# Altium schematic symbol library Digital ICs.SchLib: 15 symbols
Pins are listed as number, name and electrical type; pins without a type are passive.

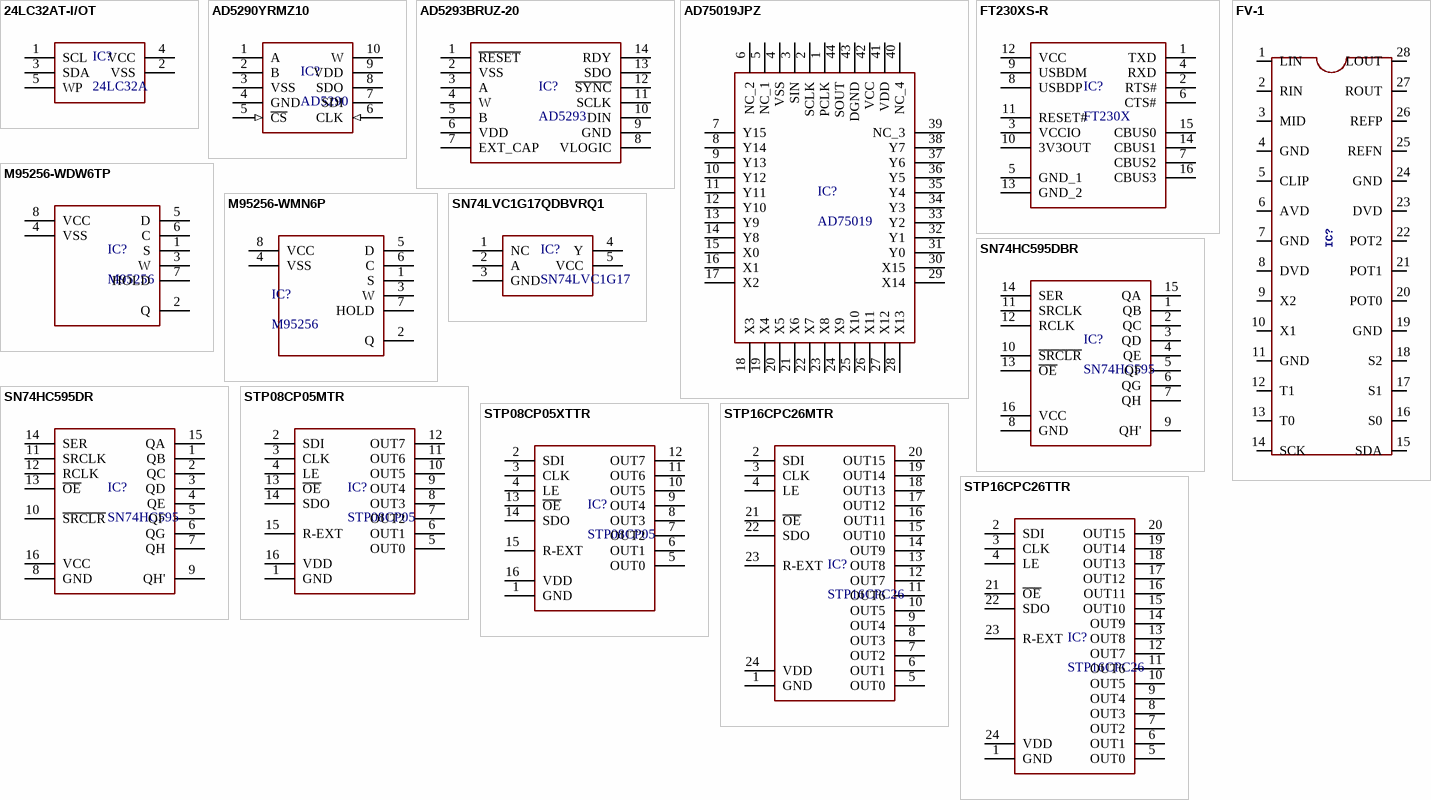
[diagram p0: symbols 24LC32AT-I/OT to STP16CPC26TTR]

## 24LC32AT-I/OT
designator IC?, comment 24LC32A
IC EEPROM 32KBIT 400KHZ SOT23-5; Manufacturer: Microchip; Manufacturer Part Number: 24LC32AT-I/OT; Interface: I2C,Serial; Access Time: 900ns; Density: 32Kb; Min Supply Voltage: 2.5V; Max Supply Voltage: 5.5V; Nominal Supply Current: 3mA; Operating Supply Voltage: 5V; Supplier 1: Farnell; Supplier Part Number 1: 1700993; RoHS: Yes; Category: EEPROM; Stock: 3287; Pricing: 1=0.29400, 10=0.29000, 25=0.28600, 50=0.27700, 100=0.26900 (EUR); Mount: Surface Mount; Case/Package: SOT-23; Number of Pins: 5; Contact Plating: Tin,Matte; Min Operating Temperature: -40°C; Max Operating Temperature: 85°C; Max Frequency: 400kHz; Frequency: 400kHz; Packaging: Tape and Reel; Package Quantity: 3000; Memory Type: EEPROM; Memory Size: 32Kb; Termination: SMD/SMT; Length: 3.1mm; Height: 1.3mm; Width: 1.8mm; Radiation Hardening: No; REACH SVHC: No SVHC; Lead Free: Lead Free; ComponentLink1URL: https://datasheet.ciiva.com/1155/1688094-1155269.pdf?src-supplier=Element14; ComponentLink1Description: https://datasheet.ciiva.com/1155/1688094-1155269.pdf?src-supplier=Element14; ComponentLink2URL: https://datasheet.ciiva.com/14134/24aa32a-24lc32a-eng-tds-14134837.pdf?src-supplier=Distrelec; ComponentLink2Description: https://datasheet.ciiva.com/14134/24aa32a-24lc32a-eng-tds-14134837.pdf?src-supplier=Distrelec; ComponentLink3URL: https://datasheet.ciiva.com/16221/filehandler-aspxddocname-en011853-16221753.pdf?src-supplier=Future+Electronics; ComponentLink3Description: https://datasheet.ciiva.com/16221/filehandler-aspxddocname-en011853-16221753.pdf?src-supplier=Future+Electronics; ComponentLink4URL: https://datasheet.ciiva.com/46410/1669362-46410953.pdf?src-supplier=Element14; ComponentLink4Description: https://datasheet.ciiva.com/46410/1669362-46410953.pdf?src-supplier=Element14; ComponentLink5URL: https://datasheet.ciiva.com/26910/getdatasheetpartid-757926-26910554.pdf?src-supplier=Verical; ComponentLink5Description: https://datasheet.ciiva.com/26910/getdatasheetpartid-757926-26910554.pdf?src-supplier=Verical; ComponentLink6URL: https://datasheet.ciiva.com/16621/21713l-16621534.pdf?src-supplier=Avnet+Europe; ComponentLink6Description: https://datasheet.ciiva.com/16621/21713l-16621534.pdf?src-supplier=Avnet+Europe; ComponentLink7URL: https://datasheet.ciiva.com/22715/1669362-22715182.pdf?src-supplier=Element14; ComponentLink7Description: https://datasheet.ciiva.com/22715/1669362-22715182.pdf?src-supplier=Element14; Price: 0.302
footprint SOT-23-5
pins: 1 SCL, 2 VSS (power), 3 SDA, 4 VCC (power), 5 WP

## AD5290YRMZ10
designator IC?, comment AD5290
DIGIPOT 8BIT 10K, SMD, 5290, MSOP10; Manufacturer: Analog Devices; Manufacturer Part Number: AD5290YRMZ10; Resistance: 10kR; Memory Type: Volatile; Number of Positions: 256; Interface: SPI; Min Supply Voltage: 20V; Max Supply Voltage: 30V; Number of Elements: 1; Tolerance: 30%; Nominal Supply Current: 15uA; Min Dual Supply Voltage: 10V; Max Dual Supply Voltage: 15V; Temperature Coefficient: 35ppm/°C; Frequency: 4MHz; -3db Bandwidth: 470Hz; Voltage: 35V; Supplier 1: Farnell; Supplier Part Number 1: 1274278; RoHS: Yes; Category: Digital Potentiometers; Stock: 199; Pricing: 1=5.36000, 10=4.31000, 25=3.90000, 50=3.71000, 100=3.55000, 250=3.20000, 500=2.75000 (EUR); Mount: Surface Mount; Case/Package: MSOP; Number of Pins: 10; Contact Plating: Tin,Matte; Min Operating Temperature: -40°C; Max Operating Temperature: 125°C; Packaging: Rail/Tube; Package Quantity: 50; Taper: Linear; Number of Circuits: 1; Number of Taps: 256; Operating Supply Current: 15uA; Max Supply Current: 15uA; Length: 3mm; Height: 0.85mm; Width: 3mm; Radiation Hardening: No; Lead Free: Contains Lead; REACH SVHC: No SVHC; ComponentLink1URL: https://datasheet.ciiva.com/1145/1519523-1145622.pdf?src-supplier=Element14; ComponentLink1Description: https://datasheet.ciiva.com/1145/1519523-1145622.pdf?src-supplier=Element14; ComponentLink2URL: https://datasheet.ciiva.com/25918/ad5290-25918522.pdf?src-supplier=Avnet+Europe; ComponentLink2Description: https://datasheet.ciiva.com/25918/ad5290-25918522.pdf?src-supplier=Avnet+Europe; ComponentLink3URL: https://datasheet.ciiva.com/1331/ad5290-1331012.pdf?src-supplier=Digi-Key; ComponentLink3Description: https://datasheet.ciiva.com/1331/ad5290-1331012.pdf?src-supplier=Digi-Key; ComponentLink4URL: https://datasheet.ciiva.com/16471/ad5290-16471686.pdf?src-supplier=Avnet+Asia; ComponentLink4Description: https://datasheet.ciiva.com/16471/ad5290-16471686.pdf?src-supplier=Avnet+Asia; ComponentLink5URL: https://datasheet.ciiva.com/3045/ad5290-3045389.pdf?src-supplier=Avnet; ComponentLink5Description: https://datasheet.ciiva.com/3045/ad5290-3045389.pdf?src-supplier=Avnet; Price: 4.93
footprint MSOP-10
pins: 1 A, 2 B, 3 VSS (power), 4 GND (power), 5 ~{CS} (in), 6 CLK (in), 7 SDI, 8 SDO, 9 VDD (power), 10 W

## AD5293BRUZ-20
designator IC?, comment AD5293
Digital Potentiometer 20kOhm 1024POS Volatile 14-Pin TSSOP Tube; Manufacturer: Analog Devices; Manufacturer Part Number: AD5293BRUZ-20; Resistance: 20kR; Number of Positions: 1024; Min Supply Voltage: 9V; Max Supply Voltage: 33V; Interface: SPI; Operating Supply Current: 200nA; Operating Supply Voltage: 15V; Temperature Coefficient: 5ppm/°C; Max Supply Current: 100nA; Tolerance: 1%; Number of Circuits: 1; Max Dual Supply Voltage: 16.5V; -3db Bandwidth: 520kHz; Supplier 1: Farnell; Supplier Part Number 1: 1827274; RoHS: Yes; Category: Digital Potentiometers; Stock: 195; Pricing: 1=6.38000, 10=5.22000, 25=4.92000, 50=4.62000, 100=4.39000, 250=4.12000, 500=3.94000 (EUR); Mount: Surface Mount; Case/Package: TSSOP; Number of Pins: 14; Contact Plating: Tin,Matte; Min Operating Temperature: -40°C; Max Operating Temperature: 105°C; Memory Type: Volatile; Packaging: Rail/Tube; Package Quantity: 96; Nominal Supply Current: 200nA; Taper: Linear; Number of Taps: 1024; Number of Elements: 1; Dual Supply Voltage: 15V; Min Dual Supply Voltage: 9V; Length: 5.1mm; Height: 1.2mm; Width: 4.5mm; Radiation Hardening: No; Lead Free: Contains Lead; REACH SVHC: No SVHC; ComponentLink1URL: https://datasheet.ciiva.com/25623/0900766b810ada80-25623724.pdf?src-supplier=RSComponents; ComponentLink1Description: https://datasheet.ciiva.com/25623/0900766b810ada80-25623724.pdf?src-supplier=RSComponents; ComponentLink2URL: https://datasheet.ciiva.com/1146/ad5293-1146560.pdf?src-supplier=Element14; ComponentLink2Description: https://datasheet.ciiva.com/1146/ad5293-1146560.pdf?src-supplier=Element14; ComponentLink3URL: https://datasheet.ciiva.com/26801/ad5293bruz-20-26801803.pdf?src-supplier=IIIC; ComponentLink3Description: https://datasheet.ciiva.com/26801/ad5293bruz-20-26801803.pdf?src-supplier=IIIC; ComponentLink4URL: https://datasheet.ciiva.com/1331/ad5293-1331078.pdf?src-supplier=Digi-Key; ComponentLink4Description: https://datasheet.ciiva.com/1331/ad5293-1331078.pdf?src-supplier=Digi-Key; ComponentLink5URL: https://datasheet.ciiva.com/3045/ad5293-3045960.pdf?src-supplier=Avnet; ComponentLink5Description: https://datasheet.ciiva.com/3045/ad5293-3045960.pdf?src-supplier=Avnet; ComponentLink6URL: https://datasheet.ciiva.com/1149/ad5293-1149307.pdf?src-supplier=Farnell; ComponentLink6Description: https://datasheet.ciiva.com/1149/ad5293-1149307.pdf?src-supplier=Farnell; ComponentLink7URL: https://datasheet.ciiva.com/16593/ad5293-16593547.pdf?src-supplier=Avnet+Europe; ComponentLink7Description: https://datasheet.ciiva.com/16593/ad5293-16593547.pdf?src-supplier=Avnet+Europe; ComponentLink8URL: https://datasheet.ciiva.com/15145/getdatasheetpartid-205736-15145773.pdf?src-supplier=Verical; ComponentLink8Description: https://datasheet.ciiva.com/15145/getdatasheetpartid-205736-15145773.pdf?src-supplier=Verical; ComponentLink9URL: https://datasheet.ciiva.com/1145/1314771-1145670.pdf?src-supplier=Element14; ComponentLink9Description: https://datasheet.ciiva.com/1145/1314771-1145670.pdf?src-supplier=Element14; ComponentLink10URL: https://datasheet.ciiva.com/48710/001246189-da-01-en-ic-dgtl-pot-1-ad5293bruz-20-tssop-14-adi-48710844.pdf?src-supplier=Conrad; ComponentLink10Description: https://datasheet.ciiva.com/48710/001246189-da-01-en-ic-dgtl-pot-1-ad5293bruz-20-tssop-14-adi-48710844.pdf?src-supplier=Conrad
footprint TSSOP-14 (TSOP, 14-Leads, Body 5.00x4.40mm, Pitch 0.65mm, IPC Medium Density)
pins: 1 ~{RESET}, 2 VSS, 3 A, 4 W, 5 B, 6 VDD, 7 EXT_CAP, 8 VLOGIC, 9 GND, 10 DIN, 11 SCLK, 12 ~{SYNC}, 13 SDO, 14 RDY

## AD75019JPZ
designator IC?, comment AD75019
Analog & Digital Crosspoint ICs 256 Analog Switches in 16x16 Array; Manufacturer: Analog Devices; Manufacturer Part Number: AD75019JPZ; On-State Resistance: 500R; Max Supply Voltage: 5.5V; Min Supply Voltage: 4.5V; Bandwidth: 20MHz; Operating Supply Current: 800uA; Supply Type: Single,Dual,Triple; Max Output Voltage: 11.5V; Nominal Supply Current: 1.5mA; Supplier 1: Mouser; RoHS: Yes; Category: Interface ICs; Stock 1: 290; Pricing 1: 1=37.61000, 5=36.05000, 10=34.69000, 25=33.12000, 50=31.18000, 100=28.25000 (USD); Case/Package: PLCC; Number of Pins: 44; Weight: 0.084185oz; Min Operating Temperature: -25°C; Max Operating Temperature: 85°C; Package Quantity: 27; Packaging: Rail/Tube; Max Dual Supply Voltage: 5.5V; Min Dual Supply Voltage: 4.5V; Length: 16.66mm; Width: 16.66mm; Height: 3.68mm; Radiation Hardening: No; Lead Free: Contains Lead; REACH SVHC: No SVHC; ComponentLink1URL: https://datasheet.ciiva.com/1170/66420-1170438.pdf?src-supplier=Element14; ComponentLink1Description: https://datasheet.ciiva.com/1170/66420-1170438.pdf?src-supplier=Element14; ComponentLink2URL: https://datasheet.ciiva.com/26824/ad75019jpz-26824058.pdf?src-supplier=IIIC; ComponentLink2Description: https://datasheet.ciiva.com/26824/ad75019jpz-26824058.pdf?src-supplier=IIIC; ComponentLink3URL: https://datasheet.ciiva.com/3036/ad75019-3036466.pdf?src-supplier=Avnet; ComponentLink3Description: https://datasheet.ciiva.com/3036/ad75019-3036466.pdf?src-supplier=Avnet; Price: 31.86
footprint PLCC-44
pins: 1 PCLK, 2 SCLK, 3 SIN, 4 VSS, 5 NC_1, 6 NC_2, 7 Y15, 8 Y14, 9 Y13, 10 Y12, 11 Y11, 12 Y10, 13 Y9, 14 Y8, 15 X0, 16 X1, 17 X2, 18 X3, 19 X4, 20 X5, 21 X6, 22 X7, 23 X8, 24 X9, 25 X10, 26 X11, 27 X12, 28 X13, 29 X14, 30 X15, 31 Y0, 32 Y1, 33 Y2, 34 Y3, 35 Y4, 36 Y5, 37 Y6, 38 Y7, 39 NC_3, 40 NC_4, 41 VDD, 42 VCC, 43 DGND, 44 SOUT

## FT230XS-R
designator IC?, comment FT230X
USB-to-UART 1-CH 512byte FIFO 5V 16-Pin SSOP T/R; Manufacturer: FTDI; Manufacturer Part Number: FT230XS-R; Data Rate: 12Mbps; Number of Channels: 1; Max Supply Voltage: 5.5V; Min Supply Voltage: 2.97V; Interface: UART,USB; Operating Supply Current: 8mA; Supplier 1: Farnell; Supplier Part Number 1: 2081321; RoHS: Yes; Category: Interface ICs; Stock 1: 45264; Mount: Surface Mount; Case/Package: SSOP; Number of Pins: 16; Weight: 0.004586oz; Min Operating Temperature: -40°C; Max Operating Temperature: 85°C; Packaging: Tape and Reel; Package Quantity: 3000; Operating Supply Voltage: 5V; Length: 5mm; Height: 0.059inch; Width: 0.157inch; ComponentLink1URL: https://datasheet.ciiva.com/1787/ds-ft230x-1787315.pdf?src-supplier=Digi-Key; ComponentLink1Description: https://datasheet.ciiva.com/1787/ds-ft230x-1787315.pdf?src-supplier=Digi-Key; ComponentLink2URL: https://datasheet.ciiva.com/4787/ds-ft230x-5395-4787571.pdf?src-supplier=Mouser; ComponentLink2Description: https://datasheet.ciiva.com/4787/ds-ft230x-5395-4787571.pdf?src-supplier=Mouser; ComponentLink3URL: https://datasheet.ciiva.com/30478/0900766b811020cb-30478167.pdf?src-supplier=RSComponents; ComponentLink3Description: https://datasheet.ciiva.com/30478/0900766b811020cb-30478167.pdf?src-supplier=RSComponents; ComponentLink4URL: https://datasheet.ciiva.com/1787/ft-x-series-1787316.pdf?src-supplier=Digi-Key; ComponentLink4Description: https://datasheet.ciiva.com/1787/ft-x-series-1787316.pdf?src-supplier=Digi-Key; ComponentLink5URL: https://datasheet.ciiva.com/1787/ft-x-series-1787317.pdf?src-supplier=Digi-Key; ComponentLink5Description: https://datasheet.ciiva.com/1787/ft-x-series-1787317.pdf?src-supplier=Digi-Key; Price: 1.73
footprint TSSOP-16 (TSOP, 16-Leads, Body 4.95x4.35mm, Pitch 0.65mm, IPC Medium Density)
pins: 1 TXD, 2 RTS#, 3 VCCIO (power), 4 RXD, 5 GND_1 (power), 6 CTS#, 7 CBUS2, 8 USBDP, 9 USBDM, 10 3V3OUT (power), 11 RESET#, 12 VCC (power), 13 GND_2 (power), 14 CBUS1, 15 CBUS0, 16 CBUS3

## FV-1
designator IC?  (value not drawn)
Spinsemi FV-1; Package: SOIC-28; Price: 8
footprint SO-28
pins: 1 LIN, 2 RIN, 3 MID, 4 GND, 5 CLIP, 6 AVD, 7 GND, 8 DVD, 9 X2, 10 X1, 11 GND, 12 T1, 13 T0, 14 SCK, 15 SDA, 16 S0, 17 S1, 18 S2, 19 GND, 20 POT0, 21 POT1, 22 POT2, 23 DVD, 24 GND, 25 REFN, 26 REFP, 27 ROUT, 28 LOUT

## M95256-WDW6TP
designator IC?, comment M95256
IC EEPROM 256KBIT 5MHZ 8TSSOP; Manufacturer: STMicroelectronics; Manufacturer Part Number: M95256-WDW6TP; Interface: SPI,Serial; Access Time: 60ns; Density: 256Kb; Max Supply Voltage: 5.5V; Min Supply Voltage: 2.5V; Nominal Supply Current: 5mA; Operating Supply Voltage: 5V; Supplier 1: Farnell; Supplier Part Number 1: 3129844; RoHS: Yes; Category: EEPROM; Stock: 3323; Pricing: 1=0.60500, 50=0.52800, 100=0.46800, 250=0.46500, 500=0.46200, 1000=0.44500, 2500=0.36700, 5000=0.36100 (EUR); Mount: Surface Mount; Case/Package: TSSOP; Number of Pins: 8; Min Operating Temperature: -40°C; Max Operating Temperature: 85°C; Max Frequency: 5MHz; Frequency: 5MHz; Packaging: Tape and Reel; Package Quantity: 1; Memory Type: EEPROM; Memory Size: 256Kb; Radiation Hardening: No; ComponentLink1URL: https://datasheet.ciiva.com/15123/getdatasheetpartid-224457-15123296.pdf?src-supplier=Verical; ComponentLink1Description: https://datasheet.ciiva.com/15123/getdatasheetpartid-224457-15123296.pdf?src-supplier=Verical; ComponentLink2URL: https://datasheet.ciiva.com/26872/m95256-wdw6tp-26872589.pdf?src-supplier=IIIC; ComponentLink2Description: https://datasheet.ciiva.com/26872/m95256-wdw6tp-26872589.pdf?src-supplier=IIIC; ComponentLink3URL: https://datasheet.ciiva.com/1905/cd00103810-1905235.pdf?src-supplier=Digi-Key; ComponentLink3Description: https://datasheet.ciiva.com/1905/cd00103810-1905235.pdf?src-supplier=Digi-Key; ComponentLink4URL: https://datasheet.ciiva.com/1905/cd00103810-1905236.pdf?src-supplier=Digi-Key; ComponentLink4Description: https://datasheet.ciiva.com/1905/cd00103810-1905236.pdf?src-supplier=Digi-Key; ComponentLink5URL: https://datasheet.ciiva.com/1905/cd00103810-1905237.pdf?src-supplier=Digi-Key; ComponentLink5Description: https://datasheet.ciiva.com/1905/cd00103810-1905237.pdf?src-supplier=Digi-Key; ComponentLink6URL: https://datasheet.ciiva.com/16622/cd00103810-16622982.pdf?src-supplier=Avnet+Europe; ComponentLink6Description: https://datasheet.ciiva.com/16622/cd00103810-16622982.pdf?src-supplier=Avnet+Europe
footprint TSSOP-8 (TSOP, 8-Leads, Body 3.00x4.40mm, Pitch 0.65mm, IPC Medium Density)
pins: 1 S, 2 Q, 3 W, 4 VSS (power), 5 D, 6 C, 7 HOLD, 8 VCC (power)

## M95256-WMN6P
designator IC?, comment M95256
IC EEPROM 256K SPI 20MHZ 8SO; Manufacturer: STMicroelectronics; Manufacturer Part Number: M95256-WMN6P; Interface: SPI,Serial; Frequency: 5MHz; Access Time: 60ns; Density: 256Kb; Min Supply Voltage: 2.5V; Max Supply Voltage: 5.5V; Nominal Supply Current: 5mA; Supplier 1: Farnell; Supplier Part Number 1: 1099712; RoHS: Yes; Category: EEPROM; Stock: 4109; Pricing: 1=0.63300, 50=0.55300, 100=0.49000, 250=0.48700, 500=0.48300, 1000=0.46600, 2500=0.38800, 5000=0.37200 (EUR); Mount: Surface Mount; Case/Package: SOIC; Number of Pins: 8; Contact Plating: Gold; Min Operating Temperature: -40°C; Max Operating Temperature: 85°C; Packaging: Rail/Tube; Memory Size: 256Kb; Max Frequency: 5MHz; Package Quantity: 100; Memory Type: EEPROM; Length: 5mm; Height: 1.5mm; Width: 4mm; Radiation Hardening: No; REACH SVHC: No SVHC; Lead Free: Lead Free; ComponentLink1URL: https://datasheet.ciiva.com/4859/cd00103810-224498-4859620.pdf?src-supplier=Mouser; ComponentLink1Description: https://datasheet.ciiva.com/4859/cd00103810-224498-4859620.pdf?src-supplier=Mouser; ComponentLink2URL: https://datasheet.ciiva.com/15123/getdatasheetpartid-42741-15123093.pdf?src-supplier=Verical; ComponentLink2Description: https://datasheet.ciiva.com/15123/getdatasheetpartid-42741-15123093.pdf?src-supplier=Verical; ComponentLink3URL: https://datasheet.ciiva.com/14163/m95256-w-eng-tds-14163003.pdf?src-supplier=Distrelec; ComponentLink3Description: https://datasheet.ciiva.com/14163/m95256-w-eng-tds-14163003.pdf?src-supplier=Distrelec; ComponentLink4URL: https://datasheet.ciiva.com/1905/cd00103810-1905381.pdf?src-supplier=Digi-Key; ComponentLink4Description: https://datasheet.ciiva.com/1905/cd00103810-1905381.pdf?src-supplier=Digi-Key; ComponentLink5URL: https://datasheet.ciiva.com/8055/1723939-8055206.pdf?src-supplier=Element14; ComponentLink5Description: https://datasheet.ciiva.com/8055/1723939-8055206.pdf?src-supplier=Element14; ComponentLink6URL: https://datasheet.ciiva.com/16622/cd00103810-16622983.pdf?src-supplier=Avnet+Europe; ComponentLink6Description: https://datasheet.ciiva.com/16622/cd00103810-16622983.pdf?src-supplier=Avnet+Europe; ComponentLink7URL: https://datasheet.ciiva.com/41455/001185592-da-01-en-ic-eepr-256kbit-m95256-wmn6p-soic-8-stm-41455210.pdf?src-supplier=Conrad; ComponentLink7Description: https://datasheet.ciiva.com/41455/001185592-da-01-en-ic-eepr-256kbit-m95256-wmn6p-soic-8-stm-41455210.pdf?src-supplier=Conrad; Price: 0.492
footprint SO-8 (SOIC, 8-Leads, Body 4.90x3.90mm, Pitch 1.27mm, IPC Medium Density)
pins: 1 S, 2 Q, 3 W, 4 VSS (power), 5 D, 6 C, 7 HOLD, 8 VCC (power)

## SN74HC595DBR
designator IC?, comment SN74HC595
IC SHIFT REGISTER 8BIT 16-SSOP; Manufacturer: Texas Instruments; Manufacturer Part Number: SN74HC595DBR; Operating Supply Voltage: 5V; Propagation Delay: 34ns; Min Supply Voltage: 2V; Max Supply Voltage: 6V; Number of Elements: 1; Direction: Unidirectional; Number of Bits per Element: 8; Number of Circuits: 4; Number of Output Lines: 10; Turn-On Delay Time: 250ns; Quiescent Current: 8uA; Supplier 1: Farnell; Supplier Part Number 1: 2499904; RoHS: Yes; Category: Shift Registers; Stock: 187; Pricing: 5=0.18800, 50=0.15100, 100=0.12200 (EUR); Mount: Surface Mount; Case/Package: SSOP; Number of Pins: 16; Weight: 0.004536oz; Contact Plating: Gold; Min Operating Temperature: -40°C; Max Operating Temperature: 85°C; Packaging: Tape and Reel; Package Quantity: 2000; Logic Function: Shift Register; Number of Bits: 8; Radiation Hardening: No; Lead Free: Lead Free; REACH SVHC: No SVHC; ComponentLink1URL: https://datasheet.ciiva.com/1887/sn74hc595-1887145.pdf?src-supplier=Digi-Key; ComponentLink1Description: https://datasheet.ciiva.com/1887/sn74hc595-1887145.pdf?src-supplier=Digi-Key; ComponentLink2URL: https://datasheet.ciiva.com/26259/sn74hc595-26259950.pdf?src-supplier=Avnet+Europe; ComponentLink2Description: https://datasheet.ciiva.com/26259/sn74hc595-26259950.pdf?src-supplier=Avnet+Europe; ComponentLink3URL: https://datasheet.ciiva.com/14295/sn74hc595-14295293.pdf?src-supplier=Avnet; ComponentLink3Description: https://datasheet.ciiva.com/14295/sn74hc595-14295293.pdf?src-supplier=Avnet; ComponentLink4URL: https://datasheet.ciiva.com/14296/sn74hc595-14296542.pdf?src-supplier=Avnet; ComponentLink4Description: https://datasheet.ciiva.com/14296/sn74hc595-14296542.pdf?src-supplier=Avnet
footprint TSSOP-16 (TSOP, 16-Leads, Body 4.95x4.35mm, Pitch 0.65mm, IPC Medium Density)
pins: 1 QB, 2 QC, 3 QD, 4 QE, 5 QF, 6 QG, 7 QH, 8 GND, 9 QH', 10 ~{SRCLR}, 11 SRCLK, 12 RCLK, 13 ~{OE}, 14 SER, 15 QA, 16 VCC

## SN74HC595DR
designator IC?, comment SN74HC595
IC, SM, LOGIC, 74HC, REGISTER; Manufacturer: Texas Instruments; Manufacturer Part Number: SN74HC595DR; Direction: Unidirectional; Max Supply Voltage: 6V; Min Supply Voltage: 2V; Propagation Delay: 250ns; Logic Function: Shift Register; Number of Elements: 1; Number of Circuits: 4; Number of Bits: 8; Operating Supply Voltage: 5V; Number of Output Lines: 10; Quiescent Current: 8uA; Frequency: 42MHz; Max Input Current: 1uA; Supplier 1: Farnell; Supplier Part Number 1: 1607849; RoHS: Yes; Category: Shift Registers; Stock: 8089; Pricing: 5=0.35500, 50=0.28400, 100=0.21300, 250=0.18900, 500=0.16600, 1000=0.14100, 5000=0.13300 (EUR); Mount: Surface Mount; Case/Package: SOIC; Number of Pins: 16; Weight: 0.004998oz; Contact Plating: Gold; Min Operating Temperature: -40°C; Max Operating Temperature: 85°C; Packaging: Tape and Reel; Package Quantity: 2500; Number of Bits per Element: 8; Turn-On Delay Time: 250ns; Termination: SMD/SMT; Length: 9.9mm; Height: 1.58mm; Width: 3.91mm; Radiation Hardening: No; Lead Free: Lead Free; REACH SVHC: No SVHC; ComponentLink1URL: https://datasheet.ciiva.com/15093/getdatasheetpartid-134875-15093436.pdf?src-supplier=Verical; ComponentLink1Description: https://datasheet.ciiva.com/15093/getdatasheetpartid-134875-15093436.pdf?src-supplier=Verical; ComponentLink2URL: https://datasheet.ciiva.com/22696/1831198-22696812.pdf?src-supplier=Element14; ComponentLink2Description: https://datasheet.ciiva.com/22696/1831198-22696812.pdf?src-supplier=Element14; ComponentLink3URL: https://datasheet.ciiva.com/34301/916385-34301758.pdf?src-supplier=Jameco; ComponentLink3Description: https://datasheet.ciiva.com/34301/916385-34301758.pdf?src-supplier=Jameco; ComponentLink4URL: https://datasheet.ciiva.com/26866/sn74hc595dr-26866161.pdf?src-supplier=IIIC; ComponentLink4Description: https://datasheet.ciiva.com/26866/sn74hc595dr-26866161.pdf?src-supplier=IIIC; ComponentLink5URL: https://datasheet.ciiva.com/1886/sn74hc595-1886279.pdf?src-supplier=Digi-Key; ComponentLink5Description: https://datasheet.ciiva.com/1886/sn74hc595-1886279.pdf?src-supplier=Digi-Key; ComponentLink6URL: https://datasheet.ciiva.com/1886/sn74hc595-1886280.pdf?src-supplier=Digi-Key; ComponentLink6Description: https://datasheet.ciiva.com/1886/sn74hc595-1886280.pdf?src-supplier=Digi-Key; ComponentLink7URL: https://datasheet.ciiva.com/1886/sn74hc595-1886281.pdf?src-supplier=Digi-Key; ComponentLink7Description: https://datasheet.ciiva.com/1886/sn74hc595-1886281.pdf?src-supplier=Digi-Key; ComponentLink8URL: https://datasheet.ciiva.com/1509/1831198-1509483.pdf?src-supplier=Element14; ComponentLink8Description: https://datasheet.ciiva.com/1509/1831198-1509483.pdf?src-supplier=Element14; ComponentLink9URL: https://datasheet.ciiva.com/46381/1886142-46381835.pdf?src-supplier=Element14; ComponentLink9Description: https://datasheet.ciiva.com/46381/1886142-46381835.pdf?src-supplier=Element14; ComponentLink10URL: https://datasheet.ciiva.com/14294/sn74hc595-14294989.pdf?src-supplier=Avnet; ComponentLink10Description: https://datasheet.ciiva.com/14294/sn74hc595-14294989.pdf?src-supplier=Avnet; ComponentLink11URL: https://datasheet.ciiva.com/14294/sn74hc595-14294991.pdf?src-supplier=Avnet; ComponentLink11Description: https://datasheet.ciiva.com/14294/sn74hc595-14294991.pdf?src-supplier=Avnet; ComponentLink12URL: https://datasheet.ciiva.com/46435/1831198-46435871.pdf?src-supplier=Element14; ComponentLink12Description: https://datasheet.ciiva.com/46435/1831198-46435871.pdf?src-supplier=Element14
footprint SO-16 (SOIC, 16-Leads, Body 9.85x3.85mm, Pitch 1.27mm, IPC Medium Density)
pins: 1 QB, 2 QC, 3 QD, 4 QE, 5 QF, 6 QG, 7 QH, 8 GND, 9 QH', 10 ~{SRCLR}, 11 SRCLK, 12 RCLK, 13 ~{OE}, 14 SER, 15 QA, 16 VCC

## SN74LVC1G17QDBVRQ1
designator IC?, comment SN74LVC1G17
Schmitt Trigger Buffer 1-CH Non-Inverting CMOS Automotive 5-Pin SOT-23 T/R; Manufacturer: Texas Instruments; Manufacturer Part Number: SN74LVC1G17QDBVRQ1; Logic Function: Schmitt Trigger,Buffer; Max Supply Voltage: 5.5V; Min Supply Voltage: 1.65V; Propagation Delay: 8ns; Number of Channels: 1; Low Level Output Current: 32mA; High Level Output Current: -32mA; Turn-On Delay Time: 14ns; Quiescent Current: 20uA; Supplier 1: Farnell; Supplier Part Number 1: 2463773; RoHS: Yes; Category: Logic Gates; Stock: 8770; Pricing: 5=0.23100, 50=0.17800, 100=0.12400, 250=0.10900, 500=0.09450, 1000=0.07980, 5000=0.07410 (EUR); Mount: Surface Mount; Case/Package: SOT-23-5; Number of Pins: 5; Min Operating Temperature: -40°C; Max Operating Temperature: 125°C; Polarity: Non-Inverting; Packaging: Tape and Reel; Package Quantity: 3000; Number of Outputs: 1; Number of Elements: 1; Number of Bits per Element: 1; Number of Bits: 1; Number of Inputs: 1; Number of Input Lines: 1; Number of Output Lines: 1; Radiation Hardening: No; REACH SVHC: No SVHC; Lead Free: Lead Free; ComponentLink1URL: https://datasheet.ciiva.com/26220/sn74lvc1g17-q1-26220672.pdf?src-supplier=Avnet+Europe; ComponentLink1Description: https://datasheet.ciiva.com/26220/sn74lvc1g17-q1-26220672.pdf?src-supplier=Avnet+Europe; ComponentLink2URL: https://datasheet.ciiva.com/6623/sn74lvc1g17-q1-6623803.pdf?src-supplier=Digi-Key; ComponentLink2Description: https://datasheet.ciiva.com/6623/sn74lvc1g17-q1-6623803.pdf?src-supplier=Digi-Key; ComponentLink3URL: https://datasheet.ciiva.com/6623/sn74lvc1g17-q1-6623805.pdf?src-supplier=Digi-Key; ComponentLink3Description: https://datasheet.ciiva.com/6623/sn74lvc1g17-q1-6623805.pdf?src-supplier=Digi-Key; ComponentLink4URL: https://datasheet.ciiva.com/14318/sces663a-14318069.pdf?src-supplier=Avnet; ComponentLink4Description: https://datasheet.ciiva.com/14318/sces663a-14318069.pdf?src-supplier=Avnet; ComponentLink5URL: https://datasheet.ciiva.com/46442/1840260-46442070.pdf?src-supplier=Element14; ComponentLink5Description: https://datasheet.ciiva.com/46442/1840260-46442070.pdf?src-supplier=Element14; ComponentLink6URL: https://datasheet.ciiva.com/6623/sn74lvc1g17-q1-6623804.pdf?src-supplier=Digi-Key; ComponentLink6Description: https://datasheet.ciiva.com/6623/sn74lvc1g17-q1-6623804.pdf?src-supplier=Digi-Key; Price: 0.165
footprint SOT-23-5
pins: 1 NC, 2 A, 3 GND, 4 Y, 5 VCC

## STP08CP05MTR
designator IC?, comment STP08CP05
IC SHIFT REGISTER 8BIT 16SOIC; Manufacturer: STMicroelectronics; Manufacturer Part Number: STP08CP05MTR; Max Supply Voltage: 5.5V; Min Supply Voltage: 3V; Number of Outputs: 8; Number of Elements: 1; Propagation Delay: 28ns; Nominal Supply Current: 13.5mA; Output Voltage: 20V; Number of Output Lines: 9; Output Current per Channel: 100mA; Switching Frequency: 30MHz; Supplier 1: Farnell; Supplier Part Number 1: 2460704; RoHS: Yes; Category: Shift Registers; Stock: 5551; Pricing: 1=0.78800, 50=0.68900, 100=0.44400, 250=0.41500, 500=0.38500, 1000=0.35600, 2500=0.30100, 5000=0.28900 (EUR); Mount: Surface Mount; Case/Package: SO; Number of Pins: 16; Contact Plating: Gold; Min Operating Temperature: -40°C; Max Operating Temperature: 125°C; Packaging: Tape and Reel; Package Quantity: 1; Number of Bits per Element: 8; Logic Function: Shift Register; Number of Circuits: 1; Number of Input Lines: 1; Output Current: 100mA; Min Input Voltage: 3V; Max Input Voltage: 5.5V; Radiation Hardening: No; Lead Free: Lead Free; REACH SVHC: No SVHC; ComponentLink1URL: https://datasheet.ciiva.com/26807/getdatasheetpartid-50603-26807446.pdf?src-supplier=Verical; ComponentLink1Description: https://datasheet.ciiva.com/26807/getdatasheetpartid-50603-26807446.pdf?src-supplier=Verical; ComponentLink2URL: https://datasheet.ciiva.com/41455/001185564-da-01-en-ic-shift-regist-stp08cp05mtr-soic-16-stm-41455644.pdf?src-supplier=Conrad; ComponentLink2Description: https://datasheet.ciiva.com/41455/001185564-da-01-en-ic-shift-regist-stp08cp05mtr-soic-16-stm-41455644.pdf?src-supplier=Conrad; ComponentLink3URL: https://datasheet.ciiva.com/16491/cd00160230-16491197.pdf?src-supplier=Future+Electronics; ComponentLink3Description: https://datasheet.ciiva.com/16491/cd00160230-16491197.pdf?src-supplier=Future+Electronics; Price: 0.837
footprint SO-16 (SOIC, 16-Leads, Body 9.85x3.85mm, Pitch 1.27mm, IPC Medium Density)
pins: 1 GND, 2 SDI, 3 CLK, 4 LE, 5 OUT0, 6 OUT1, 7 OUT2, 8 OUT3, 9 OUT4, 10 OUT5, 11 OUT6, 12 OUT7, 13 ~{OE}, 14 SDO, 15 R-EXT, 16 VDD

## STP08CP05XTTR
designator IC?, comment STP08CP05
IC SHIFT REGISTER 8BIT 16TSSOP; Manufacturer: STMicroelectronics; Manufacturer Part Number: STP08CP05XTTR; Max Supply Voltage: 5.5V; Min Supply Voltage: 3V; Number of Elements: 1; Number of Bits per Element: 8; Nominal Supply Current: 13.5mA; Output Voltage: 20V; Propagation Delay: 28ns; Number of Output Lines: 9; Output Current per Channel: 100mA; Supplier 1: Farnell; Supplier Part Number 1: 2806853; RoHS: Yes; Category: LED Drivers; Stock: 3146; Pricing: 1=0.99400, 25=0.86900, 50=0.76800, 100=0.66700, 250=0.62900, 500=0.59000, 1000=0.46600, 2500=0.40300 (EUR); Mount: Surface Mount; Case/Package: TSSOP; Number of Pins: 16; Min Operating Temperature: -40°C; Max Operating Temperature: 125°C; Packaging: Tape and Reel; Package Quantity: 1; Logic Function: Shift Register; Number of Circuits: 1; Number of Input Lines: 1; Radiation Hardening: No; Lead Free: Lead Free; ComponentLink1URL: https://datasheet.ciiva.com/4804/cd00160230-116051-4804992.pdf?src-supplier=Mouser; ComponentLink1Description: https://datasheet.ciiva.com/4804/cd00160230-116051-4804992.pdf?src-supplier=Mouser; ComponentLink2URL: https://datasheet.ciiva.com/41455/001185566-da-01-en-ic-shift-regi-stp08cp05xttr-tssop-16-stm-41455645.pdf?src-supplier=Conrad; ComponentLink2Description: https://datasheet.ciiva.com/41455/001185566-da-01-en-ic-shift-regi-stp08cp05xttr-tssop-16-stm-41455645.pdf?src-supplier=Conrad; ComponentLink3URL: https://datasheet.ciiva.com/17300/cd00160230-17300327.pdf?src-supplier=Avnet+Europe; ComponentLink3Description: https://datasheet.ciiva.com/17300/cd00160230-17300327.pdf?src-supplier=Avnet+Europe; ComponentLink4URL: https://datasheet.ciiva.com/1886/cd00160230-1886505.pdf?src-supplier=Digi-Key; ComponentLink4Description: https://datasheet.ciiva.com/1886/cd00160230-1886505.pdf?src-supplier=Digi-Key; ComponentLink5URL: https://datasheet.ciiva.com/1886/cd00160230-1886506.pdf?src-supplier=Digi-Key; ComponentLink5Description: https://datasheet.ciiva.com/1886/cd00160230-1886506.pdf?src-supplier=Digi-Key; ComponentLink6URL: https://datasheet.ciiva.com/1886/cd00160230-1886507.pdf?src-supplier=Digi-Key; ComponentLink6Description: https://datasheet.ciiva.com/1886/cd00160230-1886507.pdf?src-supplier=Digi-Key; ComponentLink7URL: https://datasheet.ciiva.com/16491/cd00160230-16491180.pdf?src-supplier=Future+Electronics; ComponentLink7Description: https://datasheet.ciiva.com/16491/cd00160230-16491180.pdf?src-supplier=Future+Electronics
footprint TSSOP-16 (TSOP, 16-Leads, Body 4.95x4.35mm, Pitch 0.65mm, IPC Medium Density)
pins: 1 GND, 2 SDI, 3 CLK, 4 LE, 5 OUT0, 6 OUT1, 7 OUT2, 8 OUT3, 9 OUT4, 10 OUT5, 11 OUT6, 12 OUT7, 13 ~{OE}, 14 SDO, 15 R-EXT, 16 VDD

## STP16CPC26MTR
designator IC?, comment STP16CPC26
IC LED DRIVER LIN DIM 90MA 24SO; Manufacturer: STMicroelectronics; Manufacturer Part Number: STP16CPC26MTR; Output Voltage: 20V; Max Supply Voltage: 5.5V; Min Supply Voltage: 3V; Number of Outputs: 16; Frequency: 30MHz; Max Supply Current: 15.3mA; Supplier 1: Farnell; Supplier Part Number 1: 2460710; RoHS: Yes; Category: LED Drivers; Stock: 1485; Pricing: 1=1.00000, 25=0.87800, 50=0.77600, 100=0.67400, 250=0.63500, 500=0.59600, 1000=0.50900, 2500=0.42200 (EUR); Mount: Surface Mount; Case/Package: SOIC; Number of Pins: 24; Min Operating Temperature: -40°C; Max Operating Temperature: 125°C; Packaging: Tape and Reel; Package Quantity: 1; Output Current: 90mA; Min Input Voltage: 3V; Max Input Voltage: 5.5V; Switching Frequency: 30MHz; Output Current per Channel: 90mA; Radiation Hardening: No; REACH SVHC: No SVHC; Lead Free: Lead Free; ComponentLink1URL: https://datasheet.ciiva.com/41458/001184648-da-01-en-ic-led-sink-dv-stp16cpc26mtr-soic-24-stm-41458200.pdf?src-supplier=Conrad; ComponentLink1Description: https://datasheet.ciiva.com/41458/001184648-da-01-en-ic-led-sink-dv-stp16cpc26mtr-soic-24-stm-41458200.pdf?src-supplier=Conrad; ComponentLink2URL: https://datasheet.ciiva.com/1947/cd00298756-1947651.pdf?src-supplier=Digi-Key; ComponentLink2Description: https://datasheet.ciiva.com/1947/cd00298756-1947651.pdf?src-supplier=Digi-Key; ComponentLink3URL: https://datasheet.ciiva.com/1947/cd00298756-1947652.pdf?src-supplier=Digi-Key; ComponentLink3Description: https://datasheet.ciiva.com/1947/cd00298756-1947652.pdf?src-supplier=Digi-Key; ComponentLink4URL: https://datasheet.ciiva.com/1947/cd00298756-1947653.pdf?src-supplier=Digi-Key; ComponentLink4Description: https://datasheet.ciiva.com/1947/cd00298756-1947653.pdf?src-supplier=Digi-Key; ComponentLink5URL: https://datasheet.ciiva.com/16491/cd00298756-16491784.pdf?src-supplier=Future+Electronics; ComponentLink5Description: https://datasheet.ciiva.com/16491/cd00298756-16491784.pdf?src-supplier=Future+Electronics; ComponentLink6URL: https://datasheet.ciiva.com/3165/cd00298756-3165289.pdf?src-supplier=Avnet; ComponentLink6Description: https://datasheet.ciiva.com/3165/cd00298756-3165289.pdf?src-supplier=Avnet; ComponentLink7URL: https://datasheet.ciiva.com/17015/cd00298756-17015228.pdf?src-supplier=Avnet+Europe; ComponentLink7Description: https://datasheet.ciiva.com/17015/cd00298756-17015228.pdf?src-supplier=Avnet+Europe; Price: 1.09
footprint SO-24 (SOIC, 24-Leads, Body 15.40x7.50mm, Pitch 1.27mm, IPC Medium Density)
pins: 1 GND, 2 SDI, 3 CLK, 4 LE, 5 OUT0, 6 OUT1, 7 OUT2, 8 OUT3, 9 OUT4, 10 OUT5, 11 OUT6, 12 OUT7, 13 OUT8, 14 OUT9, 15 OUT10, 16 OUT11, 17 OUT12, 18 OUT13, 19 OUT14, 20 OUT15, 21 ~{OE}, 22 SDO, 23 R-EXT, 24 VDD

## STP16CPC26TTR
designator IC?, comment STP16CPC26
IC LED DRVR LIN DIM 90MA 24TSSOP; Manufacturer: STMicroelectronics; Manufacturer Part Number: STP16CPC26TTR; Operating Supply Voltage: 5V; Output Voltage: 20V; Max Supply Voltage: 5.5V; Min Supply Voltage: 3V; Number of Outputs: 16; Frequency: 30MHz; Max Supply Current: 15.3mA; Supplier 1: Farnell; Supplier Part Number 1: 2762677; RoHS: Yes; Category: LED Drivers; Stock: 1271; Pricing: 1=0.51500, 50=0.45000, 100=0.43700, 250=0.42500, 500=0.41200, 1000=0.39900, 2500=0.35300, 5000=0.34500 (EUR); Mount: Surface Mount; Case/Package: TSSOP; Number of Pins: 24; Contact Plating: Gold; Min Operating Temperature: -40°C; Max Operating Temperature: 125°C; Packaging: Tape and Reel; Package Quantity: 2500; Output Current per Channel: 90mA; Radiation Hardening: No; Lead Free: Lead Free; ComponentLink1URL: https://datasheet.ciiva.com/41458/001184649-da-01-en-ic-led-sink-d-stp16cpc26ttr-tssop-24-stm-41458201.pdf?src-supplier=Conrad; ComponentLink1Description: https://datasheet.ciiva.com/41458/001184649-da-01-en-ic-led-sink-d-stp16cpc26ttr-tssop-24-stm-41458201.pdf?src-supplier=Conrad; ComponentLink2URL: https://datasheet.ciiva.com/1945/cd00298756-1945584.pdf?src-supplier=Digi-Key; ComponentLink2Description: https://datasheet.ciiva.com/1945/cd00298756-1945584.pdf?src-supplier=Digi-Key; ComponentLink3URL: https://datasheet.ciiva.com/1945/cd00298756-1945585.pdf?src-supplier=Digi-Key; ComponentLink3Description: https://datasheet.ciiva.com/1945/cd00298756-1945585.pdf?src-supplier=Digi-Key; ComponentLink4URL: https://datasheet.ciiva.com/1945/cd00298756-1945586.pdf?src-supplier=Digi-Key; ComponentLink4Description: https://datasheet.ciiva.com/1945/cd00298756-1945586.pdf?src-supplier=Digi-Key; ComponentLink5URL: https://datasheet.ciiva.com/17015/cd00298756-17015237.pdf?src-supplier=Avnet+Europe; ComponentLink5Description: https://datasheet.ciiva.com/17015/cd00298756-17015237.pdf?src-supplier=Avnet+Europe
footprint TSSOP-24 (TSOP, 24-Leads, Body 7.80x4.40mm, Pitch 0.65mm, IPC Medium Density)
pins: 1 GND, 2 SDI, 3 CLK, 4 LE, 5 OUT0, 6 OUT1, 7 OUT2, 8 OUT3, 9 OUT4, 10 OUT5, 11 OUT6, 12 OUT7, 13 OUT8, 14 OUT9, 15 OUT10, 16 OUT11, 17 OUT12, 18 OUT13, 19 OUT14, 20 OUT15, 21 ~{OE}, 22 SDO, 23 R-EXT, 24 VDD